# EAGLE library part CH101 (library CH101)
Ultrasonic ToF (Time-of-Flight) Sensors, Operating Range=4cm to 1.2m, Current Consumption=13?A (1 sample/sec:10cm max range) Source: Datasheet <https://3cfeqx1hf82y3xcoull08ihx-wpengine.netdna-ssl.com/wp-content/uploads/2021/01/DS-000331-CH101-v1.4.pdf>
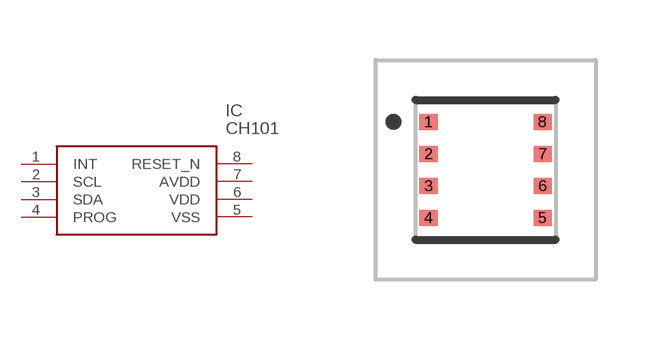
[diagram p0: symbol with the pads of CH101; footprint CH101]

Designator prefix IC

## CH101 (Description: Ultrasonic ToF (Time-of-Flight) Sensors, Operating Range=4cm to 1.2m, Current Consumption=13?A (1 sample/sec:10cm max range); Height: 1.36mm; Manufacturer_Name: TDK; Manufacturer_Part_Number: CH101)  [CH101]
1  INT
2  SCL
3  SDA
4  PROG
5  VSS
6  VDD
7  AVDD
8  RESET_N

## Footprint CH101 (pad centres in mm)
CH101
smd 0.45 x 0.4: 1 -1.425,1.2; 2 -1.425,0.4; 3 -1.425,-0.4; 4 -1.425,-1.2; 5 1.425,-1.2; 6 1.425,-0.4; 7 1.425,0.4; 8 1.425,1.2